# Altium schematic symbol library Diode - TVS.SchLib: 371 symbols (part 5 of 6)
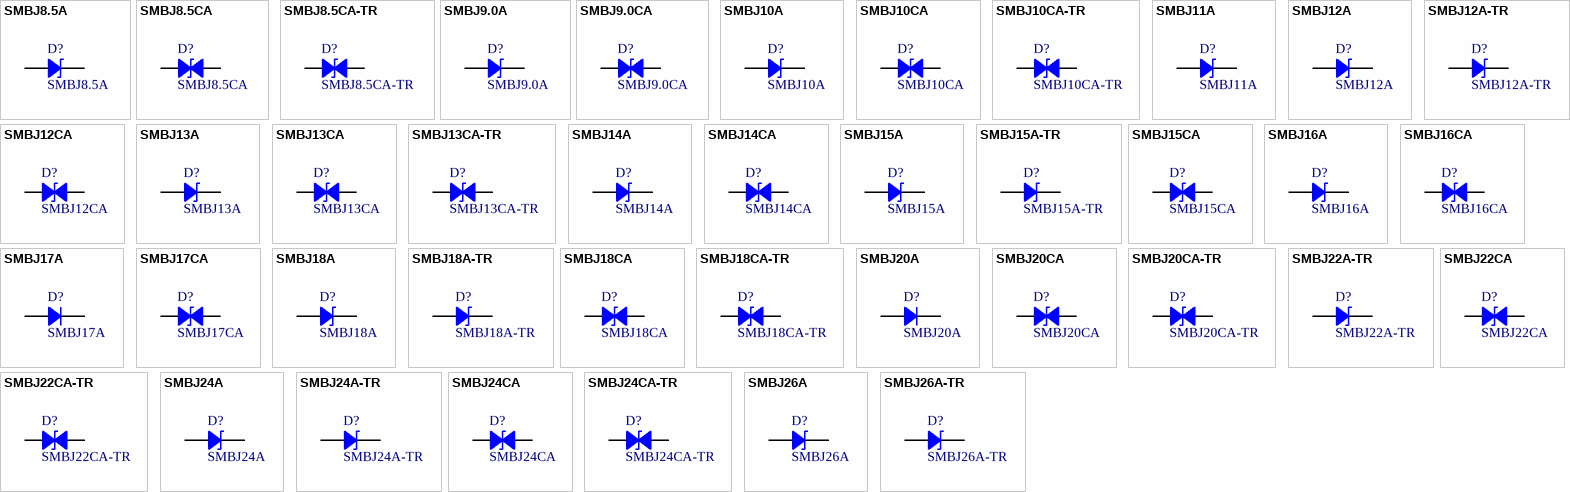
[diagram p13: symbols SMBJ8.5A to SMBJ26A-TR]

## SMBJ10CA
designator D?
TVS DIODE 10VWM 17VC DO214AA; Manufacturer: Bourns Inc.; Type: Zener; Bidirectional Channels: 1; Power - Peak Pulse: 600W; Current - Peak Pulse: 35.3A; Voltage (Clamping): 17V; Voltage (Breakdown): 11.1V; Voltage (Reverse Standoff): 10V; Part Number: SMBJ10CA; PartId: 14708; Supplier 1: Digi-Key; Supplier Part Number 1: SMBJ10CABTR-ND; ComponentLink1Description: Datasheet; ComponentLink1URL: http://www.bourns.com/docs/Product-Datasheets/SMBJ.pdf; ComponentLink2Description: Digi-Key Listing; ComponentLink2URL: https://www.digikey.com/product-detail/en/bourns-inc/SMBJ10CA/SMBJ10CABTR-ND/2254606; Operating Temperature: -55C ~ 150C (TJ); Price: 0.1091; Device Package: DO-214AA, SMB
footprint BOURNS DO214AA SMB
pins: 1, 2

## SMBJ10CA-TR
designator D?
TVS DIODE 10VWM 21.7VC DO214AA; Manufacturer: STMicroelectronics; Type: Zener; Bidirectional Channels: 1; Power - Peak Pulse: 600W; Current - Peak Pulse: 184A (8/20us); Voltage (Clamping): 21.7V; Voltage (Breakdown): 11.1V; Voltage (Reverse Standoff): 10V; Part Number: SMBJ10CA-TR; PartId: 14680; Supplier 1: Digi-Key; Supplier Part Number 1: 497-3000-2-ND; ComponentLink1Description: Datasheet; ComponentLink1URL: http://www2.st.com/content/ccc/resource/technical/document/datasheet/19/78/91/39/07/cd/40/65/CD00001366.pdf/files/CD00001366.pdf/_jcr_content/translations/en.CD00001366.pdf; ComponentLink2Description: Digi-Key Listing; ComponentLink2URL: https://www.digikey.com/product-detail/en/stmicroelectronics/SMBJ10CA-TR/497-3000-2-ND/634764; Operating Temperature: -55C ~ 150C (TJ); Price: 0.0954; Device Package: DO-214AA, SMB
footprint ST DO214AA SMB
pins: 1, 2

## SMBJ11A
designator D?
TVS DIODE 11VWM 18.2VC DO214AA; Manufacturer: Bourns Inc.; Type: Zener; Unidirectional Channels: 1; Power - Peak Pulse: 600W; Current - Peak Pulse: 33A; Voltage (Clamping): 18.2V; Voltage (Breakdown): 12.2V; Voltage (Reverse Standoff): 11V; Part Number: SMBJ11A; PartId: 14769; Supplier 1: Digi-Key; Supplier Part Number 1: SMBJ11ABTR-ND; ComponentLink1Description: Datasheet; ComponentLink1URL: http://www.bourns.com/docs/Product-Datasheets/SMBJ.pdf; ComponentLink2Description: Digi-Key Listing; ComponentLink2URL: https://www.digikey.com/product-detail/en/bourns-inc/SMBJ11A/SMBJ11ABTR-ND/2254629; Operating Temperature: -55C ~ 150C (TJ); Price: 0.1001; Device Package: DO-214AA, SMB
footprint BOURNS DO214AA SMB
pins: 1, 2

## SMBJ12A
designator D?
TVS DIODE 12VWM 19.9VC DO214AA; Manufacturer: Bourns Inc.; Type: Zener; Unidirectional Channels: 1; Power - Peak Pulse: 600W; Current - Peak Pulse: 30.2A; Voltage (Clamping): 19.9V; Voltage (Breakdown): 13.3V; Voltage (Reverse Standoff): 12V; Part Number: SMBJ12A; PartId: 14751; Supplier 1: Digi-Key; Supplier Part Number 1: SMBJ12ABTR-ND; ComponentLink1Description: Datasheet; ComponentLink1URL: http://www.bourns.com/docs/Product-Datasheets/SMBJ.pdf; ComponentLink2Description: Digi-Key Listing; ComponentLink2URL: https://www.digikey.com/product-detail/en/bourns-inc/SMBJ12A/SMBJ12ABTR-ND/2254628; Operating Temperature: -55C ~ 150C (TJ); Price: 0.1001; Device Package: DO-214AA, SMB
footprint BOURNS DO214AA SMB
pins: 1, 2

## SMBJ12A-TR
designator D?
TVS DIODE 12VWM 25.3VC DO214AA; Manufacturer: STMicroelectronics; Type: Zener; Unidirectional Channels: 1; Power - Peak Pulse: 600W; Current - Peak Pulse: 157A (8/20us); Voltage (Clamping): 25.3V; Voltage (Breakdown): 13.3V; Voltage (Reverse Standoff): 12V; Part Number: SMBJ12A-TR; PartId: 14621; Supplier 1: Digi-Key; Supplier Part Number 1: 497-3001-2-ND; ComponentLink1Description: Datasheet; ComponentLink1URL: http://www2.st.com/content/ccc/resource/technical/document/datasheet/19/78/91/39/07/cd/40/65/CD00001366.pdf/files/CD00001366.pdf/_jcr_content/translations/en.CD00001366.pdf; ComponentLink2Description: Digi-Key Listing; ComponentLink2URL: https://www.digikey.com/product-detail/en/stmicroelectronics/SMBJ12A-TR/497-3001-2-ND/634765; Operating Temperature: -55C ~ 150C (TJ); Price: 0.09; Device Package: DO-214AA, SMB
footprint ST DO214AA SMB
pins: 1, 2

## SMBJ12CA
designator D?
TVS DIODE 12VWM 19.9VC DO214AA; Manufacturer: Bourns Inc.; Type: Zener; Bidirectional Channels: 1; Power - Peak Pulse: 600W; Current - Peak Pulse: 30.2A; Voltage (Clamping): 19.9V; Voltage (Breakdown): 13.3V; Voltage (Reverse Standoff): 12V; Part Number: SMBJ12CA; PartId: 14714; Supplier 1: Digi-Key; Supplier Part Number 1: SMBJ12CABTR-ND; ComponentLink1Description: Datasheet; ComponentLink1URL: http://www.bourns.com/docs/Product-Datasheets/SMBJ.pdf; ComponentLink2Description: Digi-Key Listing; ComponentLink2URL: https://www.digikey.com/product-detail/en/bourns-inc/SMBJ12CA/SMBJ12CABTR-ND/2254639; Operating Temperature: -55C ~ 150C (TJ); Price: 0.1091; Device Package: DO-214AA, SMB
footprint BOURNS DO214AA SMB
pins: 1, 2

## SMBJ13A
designator D?
TVS DIODE 13VWM 21.5VC DO214AA; Manufacturer: Bourns Inc.; Type: Zener; Unidirectional Channels: 1; Power - Peak Pulse: 600W; Current - Peak Pulse: 28A; Voltage (Clamping): 21.5V; Voltage (Breakdown): 14.4V; Voltage (Reverse Standoff): 13V; Part Number: SMBJ13A; PartId: 14766; Supplier 1: Digi-Key; Supplier Part Number 1: SMBJ13ABTR-ND; ComponentLink1Description: Datasheet; ComponentLink1URL: http://www.bourns.com/docs/Product-Datasheets/SMBJ.pdf; ComponentLink2Description: Digi-Key Listing; ComponentLink2URL: https://www.digikey.com/product-detail/en/bourns-inc/SMBJ13A/SMBJ13ABTR-ND/2254626; Operating Temperature: -55C ~ 150C (TJ); Price: 0.1001; Device Package: DO-214AA, SMB
footprint BOURNS DO214AA SMB
pins: 1, 2

## SMBJ13CA
designator D?
TVS DIODE 13VWM 21.5VC DO214AA; Manufacturer: Bourns Inc.; Type: Zener; Bidirectional Channels: 1; Power - Peak Pulse: 600W; Current - Peak Pulse: 28A; Voltage (Clamping): 21.5V; Voltage (Breakdown): 14.4V; Voltage (Reverse Standoff): 13V; Part Number: SMBJ13CA; PartId: 14743; Supplier 1: Digi-Key; Supplier Part Number 1: SMBJ13CABTR-ND; ComponentLink1Description: Datasheet; ComponentLink1URL: http://www.bourns.com/docs/Product-Datasheets/SMBJ.pdf; ComponentLink2Description: Digi-Key Listing; ComponentLink2URL: https://www.digikey.com/product-detail/en/bourns-inc/SMBJ13CA/SMBJ13CABTR-ND/2254630; Operating Temperature: -55C ~ 150C (TJ); Price: 0.1091; Device Package: DO-214AA, SMB
footprint BOURNS DO214AA SMB
pins: 1, 2

## SMBJ13CA-TR
designator D?
TVS DIODE 13VWM 27.2VC SMB; Manufacturer: STMicroelectronics; Type: Zener; Bidirectional Channels: 1; Power - Peak Pulse: 600W; Current - Peak Pulse: 147A (8/20us); Voltage (Clamping): 27.2V; Voltage (Breakdown): 14.4V; Voltage (Reverse Standoff): 13V; Part Number: SMBJ13CA-TR; PartId: 14678; Supplier 1: Digi-Key; Supplier Part Number 1: 497-7898-2-ND; ComponentLink1Description: Datasheet; ComponentLink1URL: http://www2.st.com/content/ccc/resource/technical/document/datasheet/19/78/91/39/07/cd/40/65/CD00001366.pdf/files/CD00001366.pdf/_jcr_content/translations/en.CD00001366.pdf; ComponentLink2Description: Digi-Key Listing; ComponentLink2URL: https://www.digikey.com/product-detail/en/stmicroelectronics/SMBJ13CA-TR/497-7898-2-ND/1039131; Operating Temperature: -55C ~ 150C (TJ); Price: 0.0954; Device Package: DO-214AA, SMB
footprint ST DO214AA SMB
pins: 1, 2

## SMBJ14A
designator D?
TVS DIODE 14VWM 23.2VC DO214AA; Manufacturer: Bourns Inc.; Type: Zener; Unidirectional Channels: 1; Power - Peak Pulse: 600W; Current - Peak Pulse: 25.9A; Voltage (Clamping): 23.2V; Voltage (Breakdown): 15.6V; Voltage (Reverse Standoff): 14V; Part Number: SMBJ14A; PartId: 14764; Supplier 1: Digi-Key; Supplier Part Number 1: SMBJ14ABTR-ND; ComponentLink1Description: Datasheet; ComponentLink1URL: http://www.bourns.com/docs/Product-Datasheets/SMBJ.pdf; ComponentLink2Description: Digi-Key Listing; ComponentLink2URL: https://www.digikey.com/product-detail/en/bourns-inc/SMBJ14A/SMBJ14ABTR-ND/2254623; Operating Temperature: -55C ~ 150C (TJ); Price: 0.1001; Device Package: DO-214AA, SMB
footprint BOURNS DO214AA SMB
pins: 1, 2

## SMBJ14CA
designator D?
TVS DIODE 14VWM 23.2VC DO214AA; Manufacturer: Bourns Inc.; Type: Zener; Bidirectional Channels: 1; Power - Peak Pulse: 600W; Current - Peak Pulse: 25.9A; Voltage (Clamping): 23.2V; Voltage (Breakdown): 15.6V; Voltage (Reverse Standoff): 14V; Part Number: SMBJ14CA; PartId: 14742; Supplier 1: Digi-Key; Supplier Part Number 1: SMBJ14CABTR-ND; ComponentLink1Description: Datasheet; ComponentLink1URL: http://www.bourns.com/docs/Product-Datasheets/SMBJ.pdf; ComponentLink2Description: Digi-Key Listing; ComponentLink2URL: https://www.digikey.com/product-detail/en/bourns-inc/SMBJ14CA/SMBJ14CABTR-ND/2254638; Operating Temperature: -55C ~ 150C (TJ); Price: 0.1091; Device Package: DO-214AA, SMB
footprint BOURNS DO214AA SMB
pins: 1, 2

## SMBJ15A
designator D?
TVS DIODE 15VWM 24.4VC DO214AA; Manufacturer: Bourns Inc.; Type: Zener; Unidirectional Channels: 1; Power - Peak Pulse: 600W; Current - Peak Pulse: 24.6A; Voltage (Clamping): 24.4V; Voltage (Breakdown): 16.7V; Voltage (Reverse Standoff): 15V; Part Number: SMBJ15A; PartId: 14761; Supplier 1: Digi-Key; Supplier Part Number 1: SMBJ15ABTR-ND; ComponentLink1Description: Datasheet; ComponentLink1URL: http://www.bourns.com/docs/Product-Datasheets/SMBJ.pdf; ComponentLink2Description: Digi-Key Listing; ComponentLink2URL: https://www.digikey.com/product-detail/en/bourns-inc/SMBJ15A/SMBJ15ABTR-ND/2254637; Operating Temperature: -55C ~ 150C (TJ); Price: 0.1001; Device Package: DO-214AA, SMB
footprint BOURNS DO214AA SMB
pins: 1, 2

## SMBJ15A-TR
designator D?
TVS DIODE 15VWM 32.5VC DO214AA; Manufacturer: STMicroelectronics; Type: Zener; Unidirectional Channels: 1; Power - Peak Pulse: 600W; Current - Peak Pulse: 123A (8/20us); Voltage (Clamping): 32.5V; Voltage (Breakdown): 16.7V; Voltage (Reverse Standoff): 15V; Part Number: SMBJ15A-TR; PartId: 14619; Supplier 1: Digi-Key; Supplier Part Number 1: 497-3003-2-ND; ComponentLink1Description: Datasheet; ComponentLink1URL: http://www2.st.com/content/ccc/resource/technical/document/datasheet/19/78/91/39/07/cd/40/65/CD00001366.pdf/files/CD00001366.pdf/_jcr_content/translations/en.CD00001366.pdf; ComponentLink2Description: Digi-Key Listing; ComponentLink2URL: https://www.digikey.com/product-detail/en/stmicroelectronics/SMBJ15A-TR/497-3003-2-ND/634767; Operating Temperature: -55C ~ 150C (TJ); Price: 0.09; Device Package: DO-214AA, SMB
footprint ST DO214AA SMB
pins: 1, 2

## SMBJ15CA
designator D?
TVS DIODE 15VWM 24.4VC DO214AA; Manufacturer: Bourns Inc.; Type: Zener; Bidirectional Channels: 1; Power - Peak Pulse: 600W; Current - Peak Pulse: 24.6A; Voltage (Clamping): 24.4V; Voltage (Breakdown): 16.7V; Voltage (Reverse Standoff): 15V; Part Number: SMBJ15CA; PartId: 14710; Supplier 1: Digi-Key; Supplier Part Number 1: SMBJ15CABTR-ND; ComponentLink1Description: Datasheet; ComponentLink1URL: http://www.bourns.com/docs/Product-Datasheets/SMBJ.pdf; ComponentLink2Description: Digi-Key Listing; ComponentLink2URL: https://www.digikey.com/product-detail/en/bourns-inc/SMBJ15CA/SMBJ15CABTR-ND/2254610; Operating Temperature: -55C ~ 150C (TJ); Price: 0.1091; Device Package: DO-214AA, SMB
footprint BOURNS DO214AA SMB
pins: 1, 2

## SMBJ16A
designator D?
TVS DIODE 16VWM 26VC DO214AA; Manufacturer: Bourns Inc.; Type: Zener; Unidirectional Channels: 1; Power - Peak Pulse: 600W; Current - Peak Pulse: 23.1A; Voltage (Clamping): 26V; Voltage (Breakdown): 17.8V; Voltage (Reverse Standoff): 16V; Part Number: SMBJ16A; PartId: 14770; Supplier 1: Digi-Key; Supplier Part Number 1: SMBJ16ABTR-ND; ComponentLink1Description: Datasheet; ComponentLink1URL: http://www.bourns.com/docs/Product-Datasheets/SMBJ.pdf; ComponentLink2Description: Digi-Key Listing; ComponentLink2URL: https://www.digikey.com/product-detail/en/bourns-inc/SMBJ16A/SMBJ16ABTR-ND/2254644; Operating Temperature: -55C ~ 150C (TJ); Price: 0.1001; Device Package: DO-214AA, SMB
footprint BOURNS DO214AA SMB
pins: 1, 2

## SMBJ16CA
designator D?
TVS DIODE 16VWM 26VC DO214AA; Manufacturer: Bourns Inc.; Type: Zener; Bidirectional Channels: 1; Power - Peak Pulse: 600W; Current - Peak Pulse: 23.1A; Voltage (Clamping): 26V; Voltage (Breakdown): 17.8V; Voltage (Reverse Standoff): 16V; Part Number: SMBJ16CA; PartId: 14717; Supplier 1: Digi-Key; Supplier Part Number 1: SMBJ16CABTR-ND; ComponentLink1Description: Datasheet; ComponentLink1URL: http://www.bourns.com/docs/Product-Datasheets/SMBJ.pdf; ComponentLink2Description: Digi-Key Listing; ComponentLink2URL: https://www.digikey.com/product-detail/en/bourns-inc/SMBJ16CA/SMBJ16CABTR-ND/2254572; Operating Temperature: -55C ~ 150C (TJ); Price: 0.1091; Device Package: DO-214AA, SMB
footprint BOURNS DO214AA SMB
pins: 1, 2

## SMBJ17A
designator D?
TVS DIODE 17VWM 27.6VC SMB; Manufacturer: Littelfuse Inc.; Type: Surface Mount; Power - Peak Pulse: 600W; Current - Peak Pulse: 21.8A; Voltage (Clamping): 27.6V; Voltage (Breakdown): 18.9V; Voltage (Reverse Standoff): 17V; Part Number: SMBJ17A; PartId: 7779; Supplier 1: Digi-Key; Supplier Part Number 1: SMBJ17ALFTR-ND; ComponentLink1Description: Datasheet; ComponentLink1URL: http://www.littelfuse.com/~/media/electronics/datasheets/tvs_diodes/littelfuse_tvs_diode_smbj_datasheet.pdf.pdf; ComponentLink2Description: Digi-Key Listing; ComponentLink2URL: http://www.digikey.ca/product-detail/en/SMBJ17A/SMBJ17ALFTR-ND/688276; Operating Temperature: -55C ~ 150C (TJ); Price: 0.1851; Device Package: DO-214AA, SMB
footprint DO214AA SMB
pins: 1, 2

## SMBJ17CA
designator D?
TVS DIODE 17VWM 27.6VC DO214AA; Manufacturer: Bourns Inc.; Type: Zener; Bidirectional Channels: 1; Power - Peak Pulse: 600W; Current - Peak Pulse: 21.8A; Voltage (Clamping): 27.6V; Voltage (Breakdown): 18.9V; Voltage (Reverse Standoff): 17V; Part Number: SMBJ17CA; PartId: 14744; Supplier 1: Digi-Key; Supplier Part Number 1: SMBJ17CABTR-ND; ComponentLink1Description: Datasheet; ComponentLink1URL: http://www.bourns.com/docs/Product-Datasheets/SMBJ.pdf; ComponentLink2Description: Digi-Key Listing; ComponentLink2URL: https://www.digikey.com/product-detail/en/bourns-inc/SMBJ17CA/SMBJ17CABTR-ND/2254529; Operating Temperature: -55C ~ 150C (TJ); Price: 0.1091; Device Package: DO-214AA, SMB
footprint BOURNS DO214AA SMB
pins: 1, 2

## SMBJ18A
designator D?
TVS DIODE 18VWM 29.2VC DO214AA; Manufacturer: Bourns Inc.; Type: Zener; Unidirectional Channels: 1; Power - Peak Pulse: 600W; Current - Peak Pulse: 20.6A; Voltage (Clamping): 29.2V; Voltage (Breakdown): 20V; Voltage (Reverse Standoff): 18V; Part Number: SMBJ18A; PartId: 14757; Supplier 1: Digi-Key; Supplier Part Number 1: SMBJ18ABTR-ND; ComponentLink1Description: Datasheet; ComponentLink1URL: http://www.bourns.com/docs/Product-Datasheets/SMBJ.pdf; ComponentLink2Description: Digi-Key Listing; ComponentLink2URL: https://www.digikey.com/product-detail/en/bourns-inc/SMBJ18A/SMBJ18ABTR-ND/2254600; Operating Temperature: -55C ~ 150C (TJ); Price: 0.1001; Device Package: DO-214AA, SMB
footprint BOURNS DO214AA SMB
pins: 1, 2

## SMBJ18A-TR
designator D?
TVS DIODE 18VWM 39.3VC DO214AA; Manufacturer: STMicroelectronics; Type: Zener; Unidirectional Channels: 1; Power - Peak Pulse: 600W; Current - Peak Pulse: 102A (8/20us); Voltage (Clamping): 39.3V; Voltage (Breakdown): 20V; Voltage (Reverse Standoff): 18V; Part Number: SMBJ18A-TR; PartId: 14625; Supplier 1: Digi-Key; Supplier Part Number 1: 497-3139-2-ND; ComponentLink1Description: Datasheet; ComponentLink1URL: http://www2.st.com/content/ccc/resource/technical/document/datasheet/19/78/91/39/07/cd/40/65/CD00001366.pdf/files/CD00001366.pdf/_jcr_content/translations/en.CD00001366.pdf; ComponentLink2Description: Digi-Key Listing; ComponentLink2URL: https://www.digikey.com/product-detail/en/stmicroelectronics/SMBJ18A-TR/497-3139-2-ND/654453; Operating Temperature: -55C ~ 150C (TJ); Price: 0.099; Device Package: DO-214AA, SMB
footprint ST DO214AA SMB
pins: 1, 2

## SMBJ18CA
designator D?
TVS DIODE 18VWM 29.2VC DO214AA; Manufacturer: Bourns Inc.; Type: Zener; Bidirectional Channels: 1; Power - Peak Pulse: 600W; Current - Peak Pulse: 20.6A; Voltage (Clamping): 29.2V; Voltage (Breakdown): 20V; Voltage (Reverse Standoff): 18V; Part Number: SMBJ18CA; PartId: 14718; Supplier 1: Digi-Key; Supplier Part Number 1: SMBJ18CABTR-ND; ComponentLink1Description: Datasheet; ComponentLink1URL: http://www.bourns.com/docs/Product-Datasheets/SMBJ.pdf; ComponentLink2Description: Digi-Key Listing; ComponentLink2URL: https://www.digikey.com/product-detail/en/bourns-inc/SMBJ18CA/SMBJ18CABTR-ND/2254587; Operating Temperature: -55C ~ 150C (TJ); Price: 0.1091; Device Package: DO-214AA, SMB
footprint BOURNS DO214AA SMB
pins: 1, 2

## SMBJ18CA-TR
designator D?
TVS DIODE 18VWM 39.3VC SMB; Manufacturer: STMicroelectronics; Type: Zener; Bidirectional Channels: 1; Power - Peak Pulse: 600W; Current - Peak Pulse: 102A (8/20us); Voltage (Clamping): 39.3V; Voltage (Breakdown): 20V; Voltage (Reverse Standoff): 18V; Part Number: SMBJ18CA-TR; PartId: 14658; Supplier 1: Digi-Key; Supplier Part Number 1: 497-6512-2-ND; ComponentLink1Description: Datasheet; ComponentLink1URL: http://www2.st.com/content/ccc/resource/technical/document/datasheet/19/78/91/39/07/cd/40/65/CD00001366.pdf/files/CD00001366.pdf/_jcr_content/translations/en.CD00001366.pdf; ComponentLink2Description: Digi-Key Listing; ComponentLink2URL: https://www.digikey.com/product-detail/en/stmicroelectronics/SMBJ18CA-TR/497-6512-2-ND/1039135; Operating Temperature: -55C ~ 150C (TJ); Price: 0.0954; Device Package: DO-214AA, SMB
footprint ST DO214AA SMB
pins: 1, 2

## SMBJ20A
designator D?
TVS DIODE 20VWM 32.4VC SMB; Manufacturer: Fairchild Semiconductor; Type: Surface Mount; Power - Peak Pulse: 600W; Current - Peak Pulse: 18.5A; Voltage (Clamping): 32.4V; Voltage (Breakdown): 22.2V; Voltage (Reverse Standoff): 20V; Part Number: SMBJ20A; PartId: 7776; Supplier 1: Digi-Key; Supplier Part Number 1: SMBJ20AFSTR-ND; ComponentLink1Description: Datasheet; ComponentLink1URL: http://www.fairchildsemi.com/datasheets/SM/SMBJ100A.pdf; ComponentLink2Description: Digi-Key Listing; ComponentLink2URL: http://www.digikey.ca/product-detail/en/SMBJ20A/SMBJ20AFSTR-ND/1049535; Operating Temperature: -55C ~ 150C (TJ); Price: 0.1276; Device Package: DO-214AA, SMB
footprint DO214AA SMB
pins: 1, 2

## SMBJ20CA
designator D?
TVS DIODE 20VWM 32.4VC DO214AA; Manufacturer: Bourns Inc.; Type: Zener; Bidirectional Channels: 1; Power - Peak Pulse: 600W; Current - Peak Pulse: 18.6A; Voltage (Clamping): 32.4V; Voltage (Breakdown): 22.2V; Voltage (Reverse Standoff): 20V; Part Number: SMBJ20CA; PartId: 14737; Supplier 1: Digi-Key; Supplier Part Number 1: SMBJ20CABTR-ND; ComponentLink1Description: Datasheet; ComponentLink1URL: http://www.bourns.com/docs/Product-Datasheets/SMBJ.pdf; ComponentLink2Description: Digi-Key Listing; ComponentLink2URL: https://www.digikey.com/product-detail/en/bourns-inc/SMBJ20CA/SMBJ20CABTR-ND/2254594; Operating Temperature: -55C ~ 150C (TJ); Price: 0.1091; Device Package: DO-214AA, SMB
footprint BOURNS DO214AA SMB
pins: 1, 2

## SMBJ20CA-TR
designator D?
TVS DIODE 20VWM 42.8VC SMB; Manufacturer: STMicroelectronics; Type: Zener; Bidirectional Channels: 1; Power - Peak Pulse: 600W; Current - Peak Pulse: 93A (8/20us); Voltage (Clamping): 42.8V; Voltage (Breakdown): 22.2V; Voltage (Reverse Standoff): 20V; Part Number: SMBJ20CA-TR; PartId: 14681; Supplier 1: Digi-Key; Supplier Part Number 1: 497-6513-2-ND; ComponentLink1Description: Datasheet; ComponentLink1URL: http://www2.st.com/content/ccc/resource/technical/document/datasheet/19/78/91/39/07/cd/40/65/CD00001366.pdf/files/CD00001366.pdf/_jcr_content/translations/en.CD00001366.pdf; ComponentLink2Description: Digi-Key Listing; ComponentLink2URL: https://www.digikey.com/product-detail/en/stmicroelectronics/SMBJ20CA-TR/497-6513-2-ND/1039136; Operating Temperature: -55C ~ 150C (TJ); Price: 0.0954; Device Package: DO-214AA, SMB
footprint ST DO214AA SMB
pins: 1, 2

## SMBJ22A-TR
designator D?
TVS DIODE 22VWM 48.3VC SMB; Manufacturer: STMicroelectronics; Type: Zener; Unidirectional Channels: 1; Power - Peak Pulse: 600W; Current - Peak Pulse: 83A (8/20us); Voltage (Clamping): 48.3V; Voltage (Breakdown): 24.4V; Voltage (Reverse Standoff): 22V; Part Number: SMBJ22A-TR; PartId: 14636; Supplier 1: Digi-Key; Supplier Part Number 1: 497-7450-2-ND; ComponentLink1Description: Datasheet; ComponentLink1URL: http://www2.st.com/content/ccc/resource/technical/document/datasheet/19/78/91/39/07/cd/40/65/CD00001366.pdf/files/CD00001366.pdf/_jcr_content/translations/en.CD00001366.pdf; ComponentLink2Description: Digi-Key Listing; ComponentLink2URL: https://www.digikey.com/product-detail/en/stmicroelectronics/SMBJ22A-TR/497-7450-2-ND/1039137; Operating Temperature: -55C ~ 150C (TJ); Price: 0.09; Device Package: DO-214AA, SMB
footprint ST DO214AA SMB
pins: 1, 2

## SMBJ22CA
designator D?
TVS DIODE 22VWM 35.5VC DO214AA; Manufacturer: Bourns Inc.; Type: Zener; Bidirectional Channels: 1; Power - Peak Pulse: 600W; Current - Peak Pulse: 16.9A; Voltage (Clamping): 35.5V; Voltage (Breakdown): 24.4V; Voltage (Reverse Standoff): 22V; Part Number: SMBJ22CA; PartId: 14747; Supplier 1: Digi-Key; Supplier Part Number 1: SMBJ22CABTR-ND; ComponentLink1Description: Datasheet; ComponentLink1URL: http://www.bourns.com/docs/Product-Datasheets/SMBJ.pdf; ComponentLink2Description: Digi-Key Listing; ComponentLink2URL: https://www.digikey.com/product-detail/en/bourns-inc/SMBJ22CA/SMBJ22CABTR-ND/2254526; Operating Temperature: -55C ~ 150C (TJ); Price: 0.1091; Device Package: DO-214AA, SMB
footprint BOURNS DO214AA SMB
pins: 1, 2

## SMBJ22CA-TR
designator D?
TVS DIODE 22VWM 48.3VC SMB; Manufacturer: STMicroelectronics; Type: Zener; Bidirectional Channels: 1; Power - Peak Pulse: 600W; Current - Peak Pulse: 83A (8/20us); Voltage (Clamping): 48.3V; Voltage (Breakdown): 24.4V; Voltage (Reverse Standoff): 22V; Part Number: SMBJ22CA-TR; PartId: 14701; Supplier 1: Digi-Key; Supplier Part Number 1: 497-5725-2-ND; ComponentLink1Description: Datasheet; ComponentLink1URL: http://www2.st.com/content/ccc/resource/technical/document/datasheet/19/78/91/39/07/cd/40/65/CD00001366.pdf/files/CD00001366.pdf/_jcr_content/translations/en.CD00001366.pdf; ComponentLink2Description: Digi-Key Listing; ComponentLink2URL: https://www.digikey.com/product-detail/en/stmicroelectronics/SMBJ22CA-TR/497-5725-2-ND/1299887; Operating Temperature: -55C ~ 150C (TJ); Price: 0.0954; Device Package: DO-214AA, SMB
footprint ST DO214AA SMB
pins: 1, 2

## SMBJ24A
designator D?
TVS DIODE 24VWM 38.9VC DO214AA; Manufacturer: Bourns Inc.; Type: Zener; Unidirectional Channels: 1; Power - Peak Pulse: 600W; Current - Peak Pulse: 15.5A; Voltage (Clamping): 38.9V; Voltage (Breakdown): 26.7V; Voltage (Reverse Standoff): 24V; Part Number: SMBJ24A; PartId: 14758; Supplier 1: Digi-Key; Supplier Part Number 1: SMBJ24ABTR-ND; ComponentLink1Description: Datasheet; ComponentLink1URL: http://www.bourns.com/docs/Product-Datasheets/SMBJ.pdf; ComponentLink2Description: Digi-Key Listing; ComponentLink2URL: https://www.digikey.com/product-detail/en/bourns-inc/SMBJ24A/SMBJ24ABTR-ND/2254525; Operating Temperature: -55C ~ 150C (TJ); Price: 0.1001; Device Package: DO-214AA, SMB
footprint BOURNS DO214AA SMB
pins: 1, 2

## SMBJ24A-TR
designator D?
TVS DIODE 24VWM 50VC DO214AA; Manufacturer: STMicroelectronics; Type: Zener; Unidirectional Channels: 1; Power - Peak Pulse: 600W; Current - Peak Pulse: 80A (8/20us); Voltage (Clamping): 50V; Voltage (Breakdown): 26.7V; Voltage (Reverse Standoff): 24V; Part Number: SMBJ24A-TR; PartId: 14622; Supplier 1: Digi-Key; Supplier Part Number 1: 497-3140-2-ND; ComponentLink1Description: Datasheet; ComponentLink1URL: http://www2.st.com/content/ccc/resource/technical/document/datasheet/19/78/91/39/07/cd/40/65/CD00001366.pdf/files/CD00001366.pdf/_jcr_content/translations/en.CD00001366.pdf; ComponentLink2Description: Digi-Key Listing; ComponentLink2URL: https://www.digikey.com/product-detail/en/stmicroelectronics/SMBJ24A-TR/497-3140-2-ND/654456; Operating Temperature: -55C ~ 150C (TJ); Price: 0.09; Device Package: DO-214AA, SMB
footprint ST DO214AA SMB
pins: 1, 2

## SMBJ24CA
designator D?
TVS DIODE 24VWM 38.9VC DO214AA; Manufacturer: Bourns Inc.; Type: Zener; Bidirectional Channels: 1; Power - Peak Pulse: 600W; Current - Peak Pulse: 15.5A; Voltage (Clamping): 38.9V; Voltage (Breakdown): 26.7V; Voltage (Reverse Standoff): 24V; Part Number: SMBJ24CA; PartId: 14729; Supplier 1: Digi-Key; Supplier Part Number 1: SMBJ24CABTR-ND; ComponentLink1Description: Datasheet; ComponentLink1URL: http://www.bourns.com/docs/Product-Datasheets/SMBJ.pdf; ComponentLink2Description: Digi-Key Listing; ComponentLink2URL: https://www.digikey.com/product-detail/en/bourns-inc/SMBJ24CA/SMBJ24CABTR-ND/2254553; Operating Temperature: -55C ~ 150C (TJ); Price: 0.1091; Device Package: DO-214AA, SMB
footprint BOURNS DO214AA SMB
pins: 1, 2

## SMBJ24CA-TR
designator D?
TVS DIODE 24VWM 50VC DO214AA; Manufacturer: STMicroelectronics; Type: Zener; Bidirectional Channels: 1; Power - Peak Pulse: 600W; Current - Peak Pulse: 80A (8/20us); Voltage (Clamping): 50V; Voltage (Breakdown): 26.7V; Voltage (Reverse Standoff): 24V; Part Number: SMBJ24CA-TR; PartId: 14659; Supplier 1: Digi-Key; Supplier Part Number 1: 497-3141-2-ND; ComponentLink1Description: Datasheet; ComponentLink1URL: http://www2.st.com/content/ccc/resource/technical/document/datasheet/19/78/91/39/07/cd/40/65/CD00001366.pdf/files/CD00001366.pdf/_jcr_content/translations/en.CD00001366.pdf; ComponentLink2Description: Digi-Key Listing; ComponentLink2URL: https://www.digikey.com/product-detail/en/stmicroelectronics/SMBJ24CA-TR/497-3141-2-ND/654457; Operating Temperature: -55C ~ 150C (TJ); Price: 0.0954; Device Package: DO-214AA, SMB
footprint ST DO214AA SMB
pins: 1, 2

## SMBJ26A
designator D?
TVS DIODE 26VWM 42.1VC DO214AA; Manufacturer: Bourns Inc.; Type: Zener; Unidirectional Channels: 1; Power - Peak Pulse: 600W; Current - Peak Pulse: 14.3A; Voltage (Clamping): 42.1V; Voltage (Breakdown): 28.9V; Voltage (Reverse Standoff): 26V; Part Number: SMBJ26A; PartId: 14759; Supplier 1: Digi-Key; Supplier Part Number 1: SMBJ26ABTR-ND; ComponentLink1Description: Datasheet; ComponentLink1URL: http://www.bourns.com/docs/Product-Datasheets/SMBJ.pdf; ComponentLink2Description: Digi-Key Listing; ComponentLink2URL: https://www.digikey.com/product-detail/en/bourns-inc/SMBJ26A/SMBJ26ABTR-ND/2254552; Operating Temperature: -55C ~ 150C (TJ); Price: 0.1001; Device Package: DO-214AA, SMB
footprint BOURNS DO214AA SMB
pins: 1, 2

## SMBJ26A-TR
designator D?
TVS DIODE 26VWM 53.5VC SMB; Manufacturer: STMicroelectronics; Type: Zener; Unidirectional Channels: 1; Power - Peak Pulse: 600W; Current - Peak Pulse: 75A (8/20us); Voltage (Clamping): 53.5V; Voltage (Breakdown): 28.9V; Voltage (Reverse Standoff): 26V; Part Number: SMBJ26A-TR; PartId: 14637; Supplier 1: Digi-Key; Supplier Part Number 1: 497-7451-2-ND; ComponentLink1Description: Datasheet; ComponentLink1URL: http://www2.st.com/content/ccc/resource/technical/document/datasheet/19/78/91/39/07/cd/40/65/CD00001366.pdf/files/CD00001366.pdf/_jcr_content/translations/en.CD00001366.pdf; ComponentLink2Description: Digi-Key Listing; ComponentLink2URL: https://www.digikey.com/product-detail/en/stmicroelectronics/SMBJ26A-TR/497-7451-2-ND/1039138; Operating Temperature: -55C ~ 150C (TJ); Price: 0.09; Device Package: DO-214AA, SMB
footprint ST DO214AA SMB
pins: 1, 2

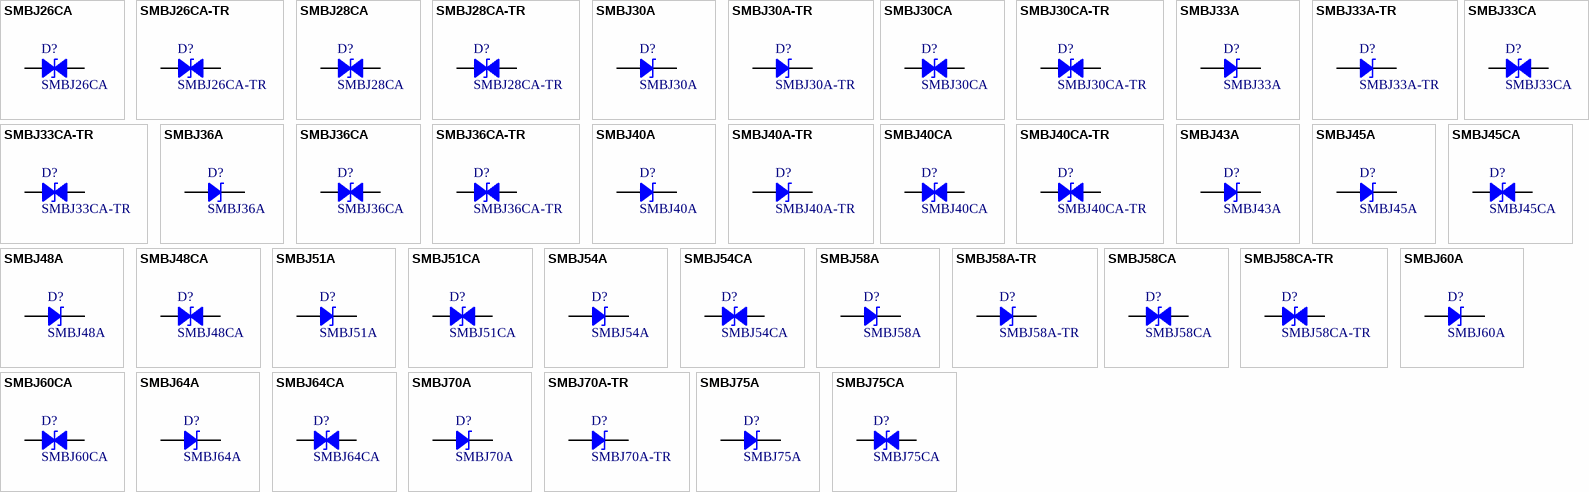
[diagram p7: symbols SMBJ26CA to SMBJ75CA]

## SMBJ26CA
designator D?
TVS DIODE 26VWM 42.1VC DO214AA; Manufacturer: Bourns Inc.; Type: Zener; Bidirectional Channels: 1; Power - Peak Pulse: 600W; Current - Peak Pulse: 14.3A; Voltage (Clamping): 42.1V; Voltage (Breakdown): 28.9V; Voltage (Reverse Standoff): 26V; Part Number: SMBJ26CA; PartId: 14712; Supplier 1: Digi-Key; Supplier Part Number 1: SMBJ26CABTR-ND; ComponentLink1Description: Datasheet; ComponentLink1URL: http://www.bourns.com/docs/Product-Datasheets/SMBJ.pdf; ComponentLink2Description: Digi-Key Listing; ComponentLink2URL: https://www.digikey.com/product-detail/en/bourns-inc/SMBJ26CA/SMBJ26CABTR-ND/2254554; Operating Temperature: -55C ~ 150C (TJ); Price: 0.1091; Device Package: DO-214AA, SMB
footprint BOURNS DO214AA SMB
pins: 1, 2

## SMBJ26CA-TR
designator D?
TVS DIODE 26VWM 53.5VC SMB; Manufacturer: STMicroelectronics; Type: Zener; Bidirectional Channels: 1; Power - Peak Pulse: 600W; Current - Peak Pulse: 75A (8/20us); Voltage (Clamping): 53.5V; Voltage (Breakdown): 28.9V; Voltage (Reverse Standoff): 26V; Part Number: SMBJ26CA-TR; PartId: 14682; Supplier 1: Digi-Key; Supplier Part Number 1: 497-15658-2-ND; ComponentLink1Description: Datasheet; ComponentLink1URL: http://www2.st.com/content/ccc/resource/technical/document/datasheet/19/78/91/39/07/cd/40/65/CD00001366.pdf/files/CD00001366.pdf/_jcr_content/translations/en.CD00001366.pdf; ComponentLink2Description: Digi-Key Listing; ComponentLink2URL: https://www.digikey.com/product-detail/en/stmicroelectronics/SMBJ26CA-TR/497-15658-2-ND/3945977; Operating Temperature: -55C ~ 150C (TJ); Price: 0.1056; Device Package: DO-214AA, SMB
footprint ST DO214AA SMB
pins: 1, 2

## SMBJ28CA
designator D?
TVS DIODE 28VWM 45.4VC DO214AA; Manufacturer: Bourns Inc.; Type: Zener; Bidirectional Channels: 1; Power - Peak Pulse: 600W; Current - Peak Pulse: 13.3A; Voltage (Clamping): 45.4V; Voltage (Breakdown): 31.1V; Voltage (Reverse Standoff): 28V; Part Number: SMBJ28CA; PartId: 14719; Supplier 1: Digi-Key; Supplier Part Number 1: SMBJ28CABTR-ND; ComponentLink1Description: Datasheet; ComponentLink1URL: http://www.bourns.com/docs/Product-Datasheets/SMBJ.pdf; ComponentLink2Description: Digi-Key Listing; ComponentLink2URL: https://www.digikey.com/product-detail/en/bourns-inc/SMBJ28CA/SMBJ28CABTR-ND/2254527; Operating Temperature: -55C ~ 150C (TJ); Price: 0.1091; Device Package: DO-214AA, SMB
footprint BOURNS DO214AA SMB
pins: 1, 2

## SMBJ28CA-TR
designator D?
TVS DIODE 28VWM 59VC SMB; Manufacturer: STMicroelectronics; Type: Zener; Bidirectional Channels: 1; Power - Peak Pulse: 600W; Current - Peak Pulse: 68A (8/20us); Voltage (Clamping): 59V; Voltage (Breakdown): 31.1V; Voltage (Reverse Standoff): 28V; Part Number: SMBJ28CA-TR; PartId: 14683; Supplier 1: Digi-Key; Supplier Part Number 1: 497-14744-2-ND; ComponentLink1Description: Datasheet; ComponentLink1URL: http://www2.st.com/content/ccc/resource/technical/document/datasheet/19/78/91/39/07/cd/40/65/CD00001366.pdf/files/CD00001366.pdf/_jcr_content/translations/en.CD00001366.pdf; ComponentLink2Description: Digi-Key Listing; ComponentLink2URL: https://www.digikey.com/product-detail/en/stmicroelectronics/SMBJ28CA-TR/497-14744-2-ND/3945978; Operating Temperature: -55C ~ 150C (TJ); Price: 0.1056; Device Package: DO-214AA, SMB
footprint ST DO214AA SMB
pins: 1, 2

## SMBJ30A
designator D?
TVS DIODE 30VWM 48.4VC DO214AA; Manufacturer: Bourns Inc.; Type: Zener; Unidirectional Channels: 1; Power - Peak Pulse: 600W; Current - Peak Pulse: 12.4A; Voltage (Clamping): 48.4V; Voltage (Breakdown): 33.3V; Voltage (Reverse Standoff): 30V; Part Number: SMBJ30A; PartId: 14752; Supplier 1: Digi-Key; Supplier Part Number 1: SMBJ30ABTR-ND; ComponentLink1Description: Datasheet; ComponentLink1URL: http://www.bourns.com/docs/Product-Datasheets/SMBJ.pdf; ComponentLink2Description: Digi-Key Listing; ComponentLink2URL: https://www.digikey.com/product-detail/en/bourns-inc/SMBJ30A/SMBJ30ABTR-ND/2254522; Operating Temperature: -55C ~ 150C (TJ); Price: 0.1001; Device Package: DO-214AA, SMB
footprint BOURNS DO214AA SMB
pins: 1, 2

## SMBJ30A-TR
designator D?
TVS DIODE 30VWM 64.3VC SMB; Manufacturer: STMicroelectronics; Type: Zener; Unidirectional Channels: 1; Power - Peak Pulse: 600W; Current - Peak Pulse: 62A (8/20us); Voltage (Clamping): 64.3V; Voltage (Breakdown): 33.3V; Voltage (Reverse Standoff): 30V; Part Number: SMBJ30A-TR; PartId: 14620; Supplier 1: Digi-Key; Supplier Part Number 1: 497-7452-2-ND; ComponentLink1Description: Datasheet; ComponentLink1URL: http://www2.st.com/content/ccc/resource/technical/document/datasheet/19/78/91/39/07/cd/40/65/CD00001366.pdf/files/CD00001366.pdf/_jcr_content/translations/en.CD00001366.pdf; ComponentLink2Description: Digi-Key Listing; ComponentLink2URL: https://www.digikey.com/product-detail/en/stmicroelectronics/SMBJ30A-TR/497-7452-2-ND/1039140; Operating Temperature: -55C ~ 150C (TJ); Price: 0.09; Device Package: DO-214AA, SMB
footprint ST DO214AA SMB
pins: 1, 2

## SMBJ30CA
designator D?
TVS DIODE 30VWM 48.4VC DO214AA; Manufacturer: Bourns Inc.; Type: Zener; Bidirectional Channels: 1; Power - Peak Pulse: 600W; Current - Peak Pulse: 12.4A; Voltage (Clamping): 48.4V; Voltage (Breakdown): 33.3V; Voltage (Reverse Standoff): 30V; Part Number: SMBJ30CA; PartId: 14741; Supplier 1: Digi-Key; Supplier Part Number 1: SMBJ30CABTR-ND; ComponentLink1Description: Datasheet; ComponentLink1URL: http://www.bourns.com/docs/Product-Datasheets/SMBJ.pdf; ComponentLink2Description: Digi-Key Listing; ComponentLink2URL: https://www.digikey.com/product-detail/en/bourns-inc/SMBJ30CA/SMBJ30CABTR-ND/2254605; Operating Temperature: -55C ~ 150C (TJ); Price: 0.1091; Device Package: DO-214AA, SMB
footprint BOURNS DO214AA SMB
pins: 1, 2

## SMBJ30CA-TR
designator D?
TVS DIODE 30VWM 64.3VC DO214AA; Manufacturer: STMicroelectronics; Type: Zener; Bidirectional Channels: 1; Power - Peak Pulse: 600W; Current - Peak Pulse: 62A (8/20us); Voltage (Clamping): 64.3V; Voltage (Breakdown): 33.3V; Voltage (Reverse Standoff): 30V; Part Number: SMBJ30CA-TR; PartId: 14662; Supplier 1: Digi-Key; Supplier Part Number 1: 497-3142-2-ND; ComponentLink1Description: Datasheet; ComponentLink1URL: http://www2.st.com/content/ccc/resource/technical/document/datasheet/19/78/91/39/07/cd/40/65/CD00001366.pdf/files/CD00001366.pdf/_jcr_content/translations/en.CD00001366.pdf; ComponentLink2Description: Digi-Key Listing; ComponentLink2URL: https://www.digikey.com/product-detail/en/stmicroelectronics/SMBJ30CA-TR/497-3142-2-ND/654460; Operating Temperature: -55C ~ 150C (TJ); Price: 0.0954; Device Package: DO-214AA, SMB
footprint ST DO214AA SMB
pins: 1, 2

## SMBJ33A
designator D?
TVS DIODE 33VWM 53.3VC DO214AA; Manufacturer: Bourns Inc.; Type: Zener; Unidirectional Channels: 1; Power - Peak Pulse: 600W; Current - Peak Pulse: 11.3A; Voltage (Clamping): 53.3V; Voltage (Breakdown): 36.7V; Voltage (Reverse Standoff): 33V; Part Number: SMBJ33A; PartId: 14753; Supplier 1: Digi-Key; Supplier Part Number 1: SMBJ33ABTR-ND; ComponentLink1Description: Datasheet; ComponentLink1URL: http://www.bourns.com/docs/Product-Datasheets/SMBJ.pdf; ComponentLink2Description: Digi-Key Listing; ComponentLink2URL: https://www.digikey.com/product-detail/en/bourns-inc/SMBJ33A/SMBJ33ABTR-ND/2254101; Operating Temperature: -55C ~ 150C (TJ); Price: 0.1001; Device Package: DO-214AA, SMB
footprint BOURNS DO214AA SMB
pins: 1, 2

## SMBJ33A-TR
designator D?
TVS DIODE 33VWM 69.7VC SMB; Manufacturer: STMicroelectronics; Type: Zener; Unidirectional Channels: 1; Power - Peak Pulse: 600W; Current - Peak Pulse: 57A (8/20us); Voltage (Clamping): 69.7V; Voltage (Breakdown): 36.7V; Voltage (Reverse Standoff): 33V; Part Number: SMBJ33A-TR; PartId: 14623; Supplier 1: Digi-Key; Supplier Part Number 1: 497-6515-2-ND; ComponentLink1Description: Datasheet; ComponentLink1URL: http://www2.st.com/content/ccc/resource/technical/document/datasheet/19/78/91/39/07/cd/40/65/CD00001366.pdf/files/CD00001366.pdf/_jcr_content/translations/en.CD00001366.pdf; ComponentLink2Description: Digi-Key Listing; ComponentLink2URL: https://www.digikey.com/product-detail/en/stmicroelectronics/SMBJ33A-TR/497-6515-2-ND/1039141; Operating Temperature: -55C ~ 150C (TJ); Price: 0.09; Device Package: DO-214AA, SMB
footprint ST DO214AA SMB
pins: 1, 2

## SMBJ33CA
designator D?
TVS DIODE 33VWM 53.3VC DO214AA; Manufacturer: Bourns Inc.; Type: Zener; Bidirectional Channels: 1; Power - Peak Pulse: 600W; Current - Peak Pulse: 11.3A; Voltage (Clamping): 53.3V; Voltage (Breakdown): 36.7V; Voltage (Reverse Standoff): 33V; Part Number: SMBJ33CA; PartId: 14731; Supplier 1: Digi-Key; Supplier Part Number 1: SMBJ33CABTR-ND; ComponentLink1Description: Datasheet; ComponentLink1URL: http://www.bourns.com/docs/Product-Datasheets/SMBJ.pdf; ComponentLink2Description: Digi-Key Listing; ComponentLink2URL: https://www.digikey.com/product-detail/en/bourns-inc/SMBJ33CA/SMBJ33CABTR-ND/2254108; Operating Temperature: -55C ~ 150C (TJ); Price: 0.1091; Device Package: DO-214AA, SMB
footprint BOURNS DO214AA SMB
pins: 1, 2

## SMBJ33CA-TR
designator D?
TVS DIODE 33VWM 69.7VC DO214AA; Manufacturer: STMicroelectronics; Type: Zener; Bidirectional Channels: 1; Power - Peak Pulse: 600W; Current - Peak Pulse: 57A (8/20us); Voltage (Clamping): 69.7V; Voltage (Breakdown): 36.7V; Voltage (Reverse Standoff): 33V; Part Number: SMBJ33CA-TR; PartId: 14665; Supplier 1: Digi-Key; Supplier Part Number 1: 497-3005-2-ND; ComponentLink1Description: Datasheet; ComponentLink1URL: http://www2.st.com/content/ccc/resource/technical/document/datasheet/19/78/91/39/07/cd/40/65/CD00001366.pdf/files/CD00001366.pdf/_jcr_content/translations/en.CD00001366.pdf; ComponentLink2Description: Digi-Key Listing; ComponentLink2URL: https://www.digikey.com/product-detail/en/stmicroelectronics/SMBJ33CA-TR/497-3005-2-ND/634769; Operating Temperature: -55C ~ 150C (TJ); Price: 0.1056; Device Package: DO-214AA, SMB
footprint ST DO214AA SMB
pins: 1, 2

## SMBJ36A
designator D?
TVS DIODE 36VWM 58.1VC DO214AA; Manufacturer: Bourns Inc.; Type: Zener; Unidirectional Channels: 1; Power - Peak Pulse: 600W; Current - Peak Pulse: 10.4A; Voltage (Clamping): 58.1V; Voltage (Breakdown): 40V; Voltage (Reverse Standoff): 36V; Part Number: SMBJ36A; PartId: 14755; Supplier 1: Digi-Key; Supplier Part Number 1: SMBJ36ABTR-ND; ComponentLink1Description: Datasheet; ComponentLink1URL: http://www.bourns.com/docs/Product-Datasheets/SMBJ.pdf; ComponentLink2Description: Digi-Key Listing; ComponentLink2URL: https://www.digikey.com/product-detail/en/bourns-inc/SMBJ36A/SMBJ36ABTR-ND/2254591; Operating Temperature: -55C ~ 150C (TJ); Price: 0.1001; Device Package: DO-214AA, SMB
footprint BOURNS DO214AA SMB
pins: 1, 2

## SMBJ36CA
designator D?
TVS DIODE 36VWM 58.1VC DO214AA; Manufacturer: Bourns Inc.; Type: Zener; Bidirectional Channels: 1; Power - Peak Pulse: 600W; Current - Peak Pulse: 10.4A; Voltage (Clamping): 58.1V; Voltage (Breakdown): 40V; Voltage (Reverse Standoff): 36V; Part Number: SMBJ36CA; PartId: 14748; Supplier 1: Digi-Key; Supplier Part Number 1: SMBJ36CABTR-ND; ComponentLink1Description: Datasheet; ComponentLink1URL: http://www.bourns.com/docs/Product-Datasheets/SMBJ.pdf; ComponentLink2Description: Digi-Key Listing; ComponentLink2URL: https://www.digikey.com/product-detail/en/bourns-inc/SMBJ36CA/SMBJ36CABTR-ND/2254532; Operating Temperature: -55C ~ 150C (TJ); Price: 0.1091; Device Package: DO-214AA, SMB
footprint BOURNS DO214AA SMB
pins: 1, 2

## SMBJ36CA-TR
designator D?
TVS DIODE 36VWM 76VC SMB; Manufacturer: STMicroelectronics; Type: Zener; Bidirectional Channels: 1; Power - Peak Pulse: 600W; Current - Peak Pulse: 52A (8/20us); Voltage (Clamping): 76V; Voltage (Breakdown): 40V; Voltage (Reverse Standoff): 36V; Part Number: SMBJ36CA-TR; PartId: 14679; Supplier 1: Digi-Key; Supplier Part Number 1: 497-12053-2-ND; ComponentLink1Description: Datasheet; ComponentLink1URL: http://www2.st.com/content/ccc/resource/technical/document/datasheet/19/78/91/39/07/cd/40/65/CD00001366.pdf/files/CD00001366.pdf/_jcr_content/translations/en.CD00001366.pdf; ComponentLink2Description: Digi-Key Listing; ComponentLink2URL: https://www.digikey.com/product-detail/en/stmicroelectronics/SMBJ36CA-TR/497-12053-2-ND/1657332; Operating Temperature: -55C ~ 150C (TJ); Price: 0.0954; Device Package: DO-214AA, SMB
footprint ST DO214AA SMB
pins: 1, 2

## SMBJ40A
designator D?
TVS DIODE 40VWM 64.5VC DO214AA; Manufacturer: Bourns Inc.; Type: Zener; Unidirectional Channels: 1; Power - Peak Pulse: 600W; Current - Peak Pulse: 9.3A; Voltage (Clamping): 64.5V; Voltage (Breakdown): 44.4V; Voltage (Reverse Standoff): 40V; Part Number: SMBJ40A; PartId: 14750; Supplier 1: Digi-Key; Supplier Part Number 1: SMBJ40ABTR-ND; ComponentLink1Description: Datasheet; ComponentLink1URL: http://www.bourns.com/docs/Product-Datasheets/SMBJ.pdf; ComponentLink2Description: Digi-Key Listing; ComponentLink2URL: https://www.digikey.com/product-detail/en/bourns-inc/SMBJ40A/SMBJ40ABTR-ND/2254531; Operating Temperature: -55C ~ 150C (TJ); Price: 0.1001; Device Package: DO-214AA, SMB
footprint BOURNS DO214AA SMB
pins: 1, 2

## SMBJ40A-TR
designator D?
TVS DIODE 40VWM 84VC SMB; Manufacturer: STMicroelectronics; Type: Zener; Unidirectional Channels: 1; Power - Peak Pulse: 600W; Current - Peak Pulse: 48A (8/20us); Voltage (Clamping): 84V; Voltage (Breakdown): 44.4V; Voltage (Reverse Standoff): 40V; Part Number: SMBJ40A-TR; PartId: 14647; Supplier 1: Digi-Key; Supplier Part Number 1: 497-6290-2-ND; ComponentLink1Description: Datasheet; ComponentLink1URL: http://www2.st.com/content/ccc/resource/technical/document/datasheet/19/78/91/39/07/cd/40/65/CD00001366.pdf/files/CD00001366.pdf/_jcr_content/translations/en.CD00001366.pdf; ComponentLink2Description: Digi-Key Listing; ComponentLink2URL: https://www.digikey.com/product-detail/en/stmicroelectronics/SMBJ40A-TR/497-6290-2-ND/1039142; Operating Temperature: -55C ~ 150C (TJ); Price: 0.09; Device Package: DO-214AA, SMB
footprint ST DO214AA SMB
pins: 1, 2

## SMBJ40CA
designator D?
TVS DIODE 40VWM 64.5VC DO214AA; Manufacturer: Bourns Inc.; Type: Zener; Bidirectional Channels: 1; Power - Peak Pulse: 600W; Current - Peak Pulse: 9.3A; Voltage (Clamping): 64.5V; Voltage (Breakdown): 44.4V; Voltage (Reverse Standoff): 40V; Part Number: SMBJ40CA; PartId: 14730; Supplier 1: Digi-Key; Supplier Part Number 1: SMBJ40CABTR-ND; ComponentLink1Description: Datasheet; ComponentLink1URL: http://www.bourns.com/docs/Product-Datasheets/SMBJ.pdf; ComponentLink2Description: Digi-Key Listing; ComponentLink2URL: https://www.digikey.com/product-detail/en/bourns-inc/SMBJ40CA/SMBJ40CABTR-ND/2254589; Operating Temperature: -55C ~ 150C (TJ); Price: 0.1091; Device Package: DO-214AA, SMB
footprint BOURNS DO214AA SMB
pins: 1, 2

## SMBJ40CA-TR
designator D?
TVS DIODE 40VWM 84VC SMB; Manufacturer: STMicroelectronics; Type: Zener; Bidirectional Channels: 1; Power - Peak Pulse: 600W; Current - Peak Pulse: 48A (8/20us); Voltage (Clamping): 84V; Voltage (Breakdown): 44.4V; Voltage (Reverse Standoff): 40V; Part Number: SMBJ40CA-TR; PartId: 14663; Supplier 1: Digi-Key; Supplier Part Number 1: 497-6516-2-ND; ComponentLink1Description: Datasheet; ComponentLink1URL: http://www2.st.com/content/ccc/resource/technical/document/datasheet/19/78/91/39/07/cd/40/65/CD00001366.pdf/files/CD00001366.pdf/_jcr_content/translations/en.CD00001366.pdf; ComponentLink2Description: Digi-Key Listing; ComponentLink2URL: https://www.digikey.com/product-detail/en/stmicroelectronics/SMBJ40CA-TR/497-6516-2-ND/1039143; Operating Temperature: -55C ~ 150C (TJ); Price: 0.0954; Device Package: DO-214AA, SMB
footprint ST DO214AA SMB
pins: 1, 2

## SMBJ43A
designator D?
TVS DIODE 43VWM 69.4VC DO214AA; Manufacturer: Bourns Inc.; Type: Zener; Unidirectional Channels: 1; Power - Peak Pulse: 600W; Current - Peak Pulse: 8.7A; Voltage (Clamping): 69.4V; Voltage (Breakdown): 47.8V; Voltage (Reverse Standoff): 43V; Part Number: SMBJ43A; PartId: 14781; Supplier 1: Digi-Key; Supplier Part Number 1: SMBJ43ABTR-ND; ComponentLink1Description: Datasheet; ComponentLink1URL: http://www.bourns.com/docs/Product-Datasheets/SMBJ.pdf; ComponentLink2Description: Digi-Key Listing; ComponentLink2URL: https://www.digikey.com/product-detail/en/bourns-inc/SMBJ43A/SMBJ43ABTR-ND/2254584; Operating Temperature: -55C ~ 150C (TJ); Price: 0.1001; Device Package: DO-214AA, SMB
footprint BOURNS DO214AA SMB
pins: 1, 2

## SMBJ45A
designator D?
TVS DIODE 45VWM 72.7VC DO214AA; Manufacturer: Bourns Inc.; Type: Zener; Unidirectional Channels: 1; Power - Peak Pulse: 600W; Current - Peak Pulse: 8.3A; Voltage (Clamping): 72.7V; Voltage (Breakdown): 50V; Voltage (Reverse Standoff): 45V; Part Number: SMBJ45A; PartId: 14763; Supplier 1: Digi-Key; Supplier Part Number 1: SMBJ45ABTR-ND; ComponentLink1Description: Datasheet; ComponentLink1URL: http://www.bourns.com/docs/Product-Datasheets/SMBJ.pdf; ComponentLink2Description: Digi-Key Listing; ComponentLink2URL: https://www.digikey.com/product-detail/en/bourns-inc/SMBJ45A/SMBJ45ABTR-ND/2254712; Operating Temperature: -55C ~ 150C (TJ); Price: 0.1001; Device Package: DO-214AA, SMB
footprint BOURNS DO214AA SMB
pins: 1, 2

## SMBJ45CA
designator D?
TVS DIODE 45VWM 72.7VC DO214AA; Manufacturer: Bourns Inc.; Type: Zener; Bidirectional Channels: 1; Power - Peak Pulse: 600W; Current - Peak Pulse: 8.3A; Voltage (Clamping): 72.7V; Voltage (Breakdown): 50V; Voltage (Reverse Standoff): 45V; Part Number: SMBJ45CA; PartId: 14724; Supplier 1: Digi-Key; Supplier Part Number 1: SMBJ45CABTR-ND; ComponentLink1Description: Datasheet; ComponentLink1URL: http://www.bourns.com/docs/Product-Datasheets/SMBJ.pdf; ComponentLink2Description: Digi-Key Listing; ComponentLink2URL: https://www.digikey.com/product-detail/en/bourns-inc/SMBJ45CA/SMBJ45CABTR-ND/2254592; Operating Temperature: -55C ~ 150C (TJ); Price: 0.1091; Device Package: DO-214AA, SMB
footprint BOURNS DO214AA SMB
pins: 1, 2

## SMBJ48A
designator D?
TVS DIODE 48VWM 77.4VC DO214AA; Manufacturer: Bourns Inc.; Type: Zener; Unidirectional Channels: 1; Power - Peak Pulse: 600W; Current - Peak Pulse: 7.8A; Voltage (Clamping): 77.4V; Voltage (Breakdown): 53.3V; Voltage (Reverse Standoff): 48V; Part Number: SMBJ48A; PartId: 14756; Supplier 1: Digi-Key; Supplier Part Number 1: SMBJ48ABTR-ND; ComponentLink1Description: Datasheet; ComponentLink1URL: http://www.bourns.com/docs/Product-Datasheets/SMBJ.pdf; ComponentLink2Description: Digi-Key Listing; ComponentLink2URL: https://www.digikey.com/product-detail/en/bourns-inc/SMBJ48A/SMBJ48ABTR-ND/2254593; Operating Temperature: -55C ~ 150C (TJ); Price: 0.1001; Device Package: DO-214AA, SMB
footprint BOURNS DO214AA SMB
pins: 1, 2

## SMBJ48CA
designator D?
TVS DIODE 48VWM 77.4VC DO214AA; Manufacturer: Bourns Inc.; Type: Zener; Bidirectional Channels: 1; Power - Peak Pulse: 600W; Current - Peak Pulse: 7.8A; Voltage (Clamping): 77.4V; Voltage (Breakdown): 53.3V; Voltage (Reverse Standoff): 48V; Part Number: SMBJ48CA; PartId: 14732; Supplier 1: Digi-Key; Supplier Part Number 1: SMBJ48CABTR-ND; ComponentLink1Description: Datasheet; ComponentLink1URL: http://www.bourns.com/docs/Product-Datasheets/SMBJ.pdf; ComponentLink2Description: Digi-Key Listing; ComponentLink2URL: https://www.digikey.com/product-detail/en/bourns-inc/SMBJ48CA/SMBJ48CABTR-ND/2254740; Operating Temperature: -55C ~ 150C (TJ); Price: 0.1091; Device Package: DO-214AA, SMB
footprint BOURNS DO214AA SMB
pins: 1, 2

## SMBJ51A
designator D?
TVS DIODE 51VWM 82.4VC DO214AA; Manufacturer: Bourns Inc.; Type: Zener; Unidirectional Channels: 1; Power - Peak Pulse: 600W; Current - Peak Pulse: 7.3A; Voltage (Clamping): 82.4V; Voltage (Breakdown): 56.7V; Voltage (Reverse Standoff): 51V; Part Number: SMBJ51A; PartId: 14771; Supplier 1: Digi-Key; Supplier Part Number 1: SMBJ51ABTR-ND; ComponentLink1Description: Datasheet; ComponentLink1URL: http://www.bourns.com/docs/Product-Datasheets/SMBJ.pdf; ComponentLink2Description: Digi-Key Listing; ComponentLink2URL: https://www.digikey.com/product-detail/en/bourns-inc/SMBJ51A/SMBJ51ABTR-ND/2254716; Operating Temperature: -55C ~ 150C (TJ); Price: 0.1001; Device Package: DO-214AA, SMB
footprint BOURNS DO214AA SMB
pins: 1, 2

## SMBJ51CA
designator D?
TVS DIODE 51VWM 82.4VC DO214AA; Manufacturer: Bourns Inc.; Type: Zener; Bidirectional Channels: 1; Power - Peak Pulse: 600W; Current - Peak Pulse: 7.3A; Voltage (Clamping): 82.4V; Voltage (Breakdown): 56.7V; Voltage (Reverse Standoff): 51V; Part Number: SMBJ51CA; PartId: 14711; Supplier 1: Digi-Key; Supplier Part Number 1: SMBJ51CABTR-ND; ComponentLink1Description: Datasheet; ComponentLink1URL: http://www.bourns.com/docs/Product-Datasheets/SMBJ.pdf; ComponentLink2Description: Digi-Key Listing; ComponentLink2URL: https://www.digikey.com/product-detail/en/bourns-inc/SMBJ51CA/SMBJ51CABTR-ND/2254588; Operating Temperature: -55C ~ 150C (TJ); Price: 0.1091; Device Package: DO-214AA, SMB
footprint BOURNS DO214AA SMB
pins: 1, 2

## SMBJ54A
designator D?
TVS DIODE 54VWM 87.1VC DO214AA; Manufacturer: Bourns Inc.; Type: Zener; Unidirectional Channels: 1; Power - Peak Pulse: 600W; Current - Peak Pulse: 6.9A; Voltage (Clamping): 87.1V; Voltage (Breakdown): 60V; Voltage (Reverse Standoff): 54V; Part Number: SMBJ54A; PartId: 14773; Supplier 1: Digi-Key; Supplier Part Number 1: SMBJ54ABTR-ND; ComponentLink1Description: Datasheet; ComponentLink1URL: http://www.bourns.com/docs/Product-Datasheets/SMBJ.pdf; ComponentLink2Description: Digi-Key Listing; ComponentLink2URL: https://www.digikey.com/product-detail/en/bourns-inc/SMBJ54A/SMBJ54ABTR-ND/2254585; Operating Temperature: -55C ~ 150C (TJ); Price: 0.1001; Device Package: DO-214AA, SMB
footprint BOURNS DO214AA SMB
pins: 1, 2

## SMBJ54CA
designator D?
TVS DIODE 54VWM 87.1VC DO214AA; Manufacturer: Bourns Inc.; Type: Zener; Bidirectional Channels: 1; Power - Peak Pulse: 600W; Current - Peak Pulse: 6.9A; Voltage (Clamping): 87.1V; Voltage (Breakdown): 60V; Voltage (Reverse Standoff): 54V; Part Number: SMBJ54CA; PartId: 14727; Supplier 1: Digi-Key; Supplier Part Number 1: SMBJ54CABTR-ND; ComponentLink1Description: Datasheet; ComponentLink1URL: http://www.bourns.com/docs/Product-Datasheets/SMBJ.pdf; ComponentLink2Description: Digi-Key Listing; ComponentLink2URL: https://www.digikey.com/product-detail/en/bourns-inc/SMBJ54CA/SMBJ54CABTR-ND/2254604; Operating Temperature: -55C ~ 150C (TJ); Price: 0.1091; Device Package: DO-214AA, SMB
footprint BOURNS DO214AA SMB
pins: 1, 2